# Altium schematic symbol library EG1S_DIODE.SchLib: 1 symbol
Pins are listed as number, name and electrical type; pins without a type are passive.

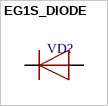
[diagram p0: symbol EG1S_DIODE]

## EG1S_DIODE
designator VD?
footprint DO-214AC, SMA
pins: 1 C, 2 A